# Altium schematic symbol library INDUCTORS.SchLib: 27 symbols
Pins are listed as number, name and electrical type; pins without a type are passive.

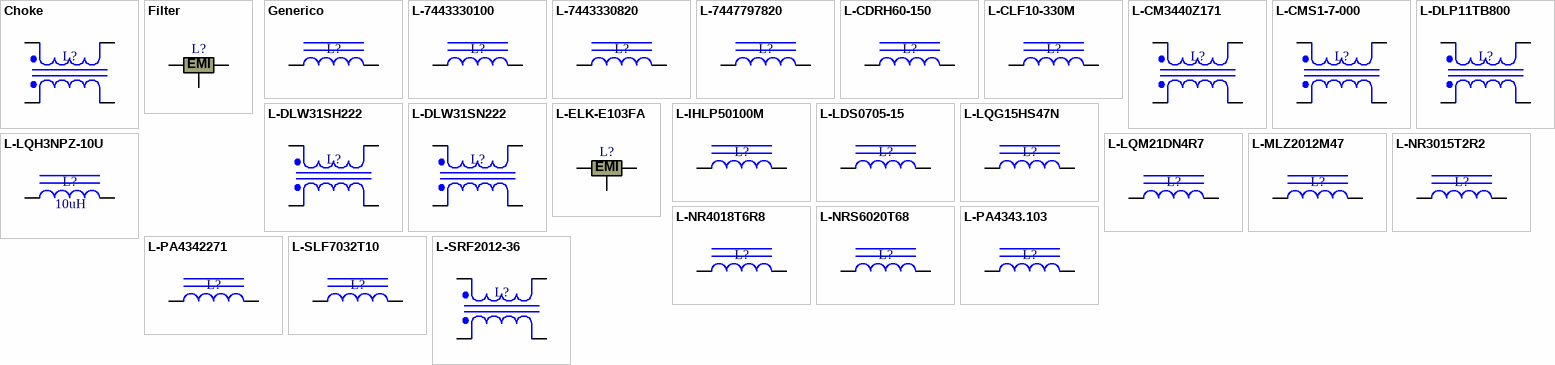
[diagram p0: symbols Choke to L-SRF2012-36]

## Choke
designator L?
Manufacturer Part Number: *; Working Temperature: *; Temperature Coefficient: *; Mounting: *; Short Description: *; Power: *; Ratings: *; Type: *; Frequency: *; Alternate Part Number 1: *; Alternate Part Number 2: *; Manufacturer: *; Tolerance: *; Current: *; Revision Date: *; Package Reference: *; Voltage: *; Value: *
pins: 1, 2, 3, 4

## Filter
designator L?
Manufacturer Part Number: *; Working Temperature: *; Temperature Coefficient: *; Mounting: *; Short Description: *; Power: *; Ratings: *; Type: *; Frequency: *; Alternate Part Number 1: *; Alternate Part Number 2: *; Manufacturer: *; Tolerance: *; Current: *; Revision Date: *; Package Reference: *; Voltage: *; Value: *
pins: 0, 1, 2
text: EMI

## Generico
designator L?
Manufacturer Part Number: *; Working Temperature: *; Temperature Coefficient: *; Mounting: *; Short Description: *; Power: *; Ratings: *; Type: *; Frequency: *; Alternate Part Number 1: *; Alternate Part Number 2: *; Manufacturer: *; Tolerance: *; Current: *; Revision Date: *; Package Reference: *; Voltage: *; Value: *
pins: 1, 2

## L-7443330100
designator L?
1 µH Shielded Wirewound Inductor 20 A 2.65mOhm Max Nonstandard; Manufacturer Part Number: 7443330100; Manufacturer: Würth Elektronik; Working Temperature: -40°C ~ 125°C; Temperature Coefficient: NC; Short Description: FIXED IND 1UH 20A 2.65 MOHM SMD; Ratings: REACH, ROHS3; Type: Fixed; Frequency: 100MHz; Tolerance: ±20%; Current: 20A; Value: 1u; Mounting: SMT; Power: NC; Alternate Part Number 2: *; Revision Date: 03/08/21; Package Reference: *; Voltage: NC
footprint 7443330100 (INDUCTOR POWER (10.90mm x 10.00mm x 9.30mm))
pins: 1, 2

## L-7443330820
designator L?
8.2 µH Shielded Wirewound Inductor 11.5 A 15mOhm Max Nonstandard; Manufacturer Part Number: 7443330820; Manufacturer: Würth Elektronik; Working Temperature: -40°C ~ 125°C; Temperature Coefficient: NC; Short Description: FIXED IND 8.2UH 11.5A 15MOHM SMD; Ratings: REACH, ROHS3; Type: Fixed; Frequency: 36MHz; Tolerance: ±20%; Current: 11.5A; Value: 8.2u; Mounting: SMT; Power: NC; Alternate Part Number 2: *; Revision Date: 03/08/21; Package Reference: *; Voltage: NC
footprint 7443330820
pins: 1, 2

## L-7447797820
designator L?
8.2 µH Shielded Wirewound Inductor 5.05 A 28.6mOhm Max Nonstandard; Manufacturer Part Number: 7447797820; Manufacturer: Würth Elektronik; Working Temperature: -40°C ~ 150°C; Temperature Coefficient: NC; Short Description: FIXED IND 8.2UH 5.05A 28.6 MOHM; Ratings: REACH, ROHS3; Type: Fixed; Frequency: 28MHz; Tolerance: ±20%; Current: 5.05A; Value: 8.2u; Mounting: SMT; Power: NC; Alternate Part Number 2: *; Revision Date: 03/08/21; Package Reference: *; Voltage: NC
footprint 7443330820
pins: 1, 2

## L-CDRH60-150
designator L?
15 µH Shielded - Inductor 2 A 76.8mOhm Nonstandard; Manufacturer Part Number: CDRH60D45BT150NP-150MC; Manufacturer: Sumida America Components Inc.; Working Temperature: -55°C ~ 150°C; Temperature Coefficient: NC; Short Description: FIXED IND 15UH 2A 76.8 MOHM SMD; Type: Fixed; Frequency: ND; Tolerance: ±20%; Current: 2A; Value: 15u; Mounting: SMT; Power: NC; Alternate Part Number 2: *; Revision Date: 25/10/21; Package Reference: *; Voltage: NC
footprint CDRH60D45BT150NP-150MC (Footprint not found)
pins: 1, 2

## L-CLF10-330M
designator L?  (value not drawn)
33 µH Shielded Drum Core, Wirewound Inductor 2.15 A 73.2mOhm Max Nonstandard; Manufacturer Part Number: CLF10060NIT-330M-D; Manufacturer: TDK Corporation; Working Temperature: -55°C ~ 150°C; Temperature Coefficient: NC; Short Description: FIXED IND 33UH 2.9A 73.2 MOHM; Ratings: REACH, ROHS3; Type: Fixed; Frequency: 10MHz; Tolerance: ±20%; Current: 2.15A; Value: 33uH; Mounting: SMT; Power: NC; Alternate Part Number 2: *; Revision Date: 03/08/21; Package Reference: *; Voltage: NC
footprint 7443330100 (INDUCTOR POWER (10.90mm x 10.00mm x 9.30mm))
pins: 1, 2

## L-CM3440Z171
designator L?
2 Line Common Mode Choke Surface Mount 170 Ohms @ 100 MHz 20A DCR 1mOhm; Manufacturer Part Number: CM3440Z171R-10; Manufacturer: Laird-Signal Integrity Products; Working Temperature: -40°C ~ 125°C; Temperature Coefficient: NC; Short Description: CMC 20A 2LN 170 OHM SMD; Ratings: REACH, ROHS3; Mounting: SMT; Power: NC; Type: Choke; Frequency: NC; Alternate Part Number 2: *; Tolerance: NC; Current: 20A; Revision Date: 03/08/21; Package Reference: *; Voltage: NC; Value: 170 Ohms @ 100 MHz
footprint CM3440Z171R-10 ((11.05mm x 8.51mm))
pins: 1, 2, 3, 4

## L-CMS1-7-000
designator L?
41.5 µH @ 100 kHz 2 Line Common Mode Choke Surface Mount 2.6A DCR 19mOhm (Typ); Manufacturer Part Number: CMS1-7-R; Working Temperature: -40°C ~ 160°C; Temperature Coefficient: NC; Short Description: CMC 41.5UH 2.6A 2LN SMD; Ratings: ROHS3; Mounting: SMT; Power: NC; Type: Choke; Frequency: NC; Alternate Part Number 2: *; Manufacturer: CMS1-7-R; Tolerance: NC; Current: 2.6A; Revision Date: 03/08/21; Package Reference: *; Voltage: NC; Value: 41.5 µH @ 100 kHz
footprint CMS1-7
pins: 1, 2, 3, 4

## L-DLP11TB800
designator L?
2 Line Common Mode Choke Surface Mount 80 Ohms @ 100 MHz 100mA DCR 1.88Ohm; Manufacturer Part Number: DLP11TB800UL2L; Manufacturer: Murata Electronics; Working Temperature: -40°C ~ 85°C; Temperature Coefficient: NC; Short Description: CMC 100MA 2LN 80 OHM SMD; Ratings: ROHS3; Mounting: SMT; Power: NC; Type: Choke; Frequency: NC; Alternate Part Number 2: *; Tolerance: NC; Current: 100mA; Revision Date: 03/08/21; Package Reference: 0504; Voltage: NC; Value: 80 Ohms @ 100 MHz
footprint DLP11TB800UL2
pins: 1, 2, 3, 4

## L-DLW31SH222
designator L?
2 Line Common Mode Choke Surface Mount 2.2 kOhms @ 100 MHz 80mA DCR 1.92Ohm; Manufacturer Part Number: DLW31SH222SQ2L; Manufacturer: Murata Electronics; Working Temperature: -40°C ~ 125°C; Temperature Coefficient: NC; Short Description: CMC 80MA 2LN 2.2KOHM SMD AECQ200; Ratings: ROHS3, AEC-Q200; Mounting: SMT; Power: NC; Type: Choke; Frequency: NC; Alternate Part Number 2: *; Tolerance: NC; Current: 80mA; Revision Date: 03/08/21; Package Reference: 1206; Voltage: NC; Value: 2.2 kOhms @ 100 MHz
footprint DLW31SH222SQ2L (Chip Common Mode Choke Coil)
pins: 1, 2, 3, 4

## L-DLW31SN222
designator L?
2 Line Common Mode Choke Surface Mount 2.2 kOhms @ 100 MHz 200mA DCR 1.2Ohm; Manufacturer Part Number: DLW31SN222SQ2L; Manufacturer: Murata Electronics; Working Temperature: -40°C ~ 85°C; Temperature Coefficient: NC; Short Description: CMC 200MA 2LN 2.2KOHM SMD; Ratings: ROHS3; Mounting: SMT; Power: NC; Type: Choke; Frequency: NC; Alternate Part Number 2: *; Tolerance: NC; Current: 200mA; Revision Date: 03/08/21; Package Reference: 1206; Voltage: NC; Value: 2.2 kOhms @ 100 MHz
footprint DLW31SH222SQ2L (Chip Common Mode Choke Coil)
pins: 1, 2, 3, 4

## L-ELK-E103FA
designator L?
LC (T-Type) EMI Filter 3rd Order Low Pass 1 Channel C = 10000pF 2 A 1207 (3218 Metric), 3 PC Pad; Manufacturer Part Number: ELK-E103FA; Manufacturer: Panasonic Electronic Components; Working Temperature: -40°C ~ 85°C; Temperature Coefficient: NC; Short Description: FILTER LC(T) 0.01UF 500KHZ SMD; Ratings: ROHS3; Current: 2A; Value: 500kHz; Mounting: SMT; Power: NC; Type: Filter; Frequency: NC; Alternate Part Number 2: *; Tolerance: NC; Revision Date: 03/08/21; Package Reference: *; Voltage: NC
footprint ELK-E103FA (DIGITAL NOISE FILTER 500KHZ SMD)
pins: 0, 1, 2
text: EMI

## L-IHLP50100M
designator L?  (value not drawn)
10 µH Shielded Molded Inductor 10 A 17.2mOhm Max Nonstandard; Manufacturer Part Number: IHLP50FDER100M01; Manufacturer: Vishay Dale; Working Temperature: -55°C ~ 125°C; Temperature Coefficient: NC; Short Description: FIXED IND 10uH 10A 17.2 MOHM SMD; Ratings: REACH, ROHS3; Type: Fixed; Frequency: 5MHz; Tolerance: ±20%; Current: 10A; Value: 10uH; Mounting: SMT; Power: NC; Alternate Part Number 2: *; Revision Date: 03/08/21; Package Reference: *; Voltage: NC
footprint IHLP5050FDER100M01 (0.520" L x 0.508" W (13.20mm x 12.90mm))
pins: 1, 2

## L-LDS0705-15
designator L?
15 µH Shielded Wirewound Inductor 2.04 A 56mOhm Nonstandard; Manufacturer Part Number: LDS0705-150M-R; Manufacturer: Eaton - Electronics Division; Working Temperature: -40°C ~ 125°C; Temperature Coefficient: NC; Short Description: FIXED IND 15UH 2.04A 56 MOHM SMD; Type: Fixed; Frequency: ND; Tolerance: ±20%; Current: 2.04A; Value: 15u; Mounting: SMT; Power: NC; Alternate Part Number 2: *; Revision Date: 03/08/21; Package Reference: *; Voltage: NC
footprint LDS0705-150M-R
pins: 1, 2

## L-LQG15HS47N
designator L?
47 nH Unshielded Multilayer Inductor 300 mA 720mOhm Max 0402 (1005 Metric); Manufacturer Part Number: LQG15HS47NJ02D; Manufacturer: Murata Electronics; Working Temperature: -55°C ~ 125°C; Temperature Coefficient: NC; Short Description: FIXED IND 47NH 300MA 720MOHM SMD; Ratings: ROHS3; Type: Fixed; Frequency: 1GHz; Tolerance: ±5%; Current: 300mA; Value: 47n; Mounting: SMT; Power: NC; Alternate Part Number 2: *; Revision Date: 03/08/21; Package Reference: 0402; Voltage: NC
footprint L0402
pins: 1, 2

## L-LQH3NPZ-10U
designator L?  value 10uH
10 µH Shielded Drum Core, Wirewound Inductor 1.2 A 288mOhm Max 1212 (3030 Metric); Manufacturer Part Number: LQH3NPZ100MJRL; Manufacturer: Murata Electronics; Working Temperature: -40°C ~ 105°C; Temperature Coefficient: NC; Short Description: FIXED IND 10UH 1.2A 288 MOHM SMD; Ratings: AEC-Q200, ROHS3; Type: Fixed; Frequency: 30MHz; Tolerance: ±20%; Current: 1.2A; Mounting: SMT; Power: NC; Alternate Part Number 2: *; Revision Date: 18/04/23; Package Reference: *; Voltage: NC
footprint NR3015T2R2M
pins: 1, 2

## L-LQM21DN4R7
designator L?
4.7 µH Shielded Multilayer Inductor 30 mA 300mOhm Max 0805 (2012 Metric); Manufacturer Part Number: LQM21DN4R7N00D; Manufacturer: Murata Electronics; Working Temperature: -40°C ~ 85°C; Temperature Coefficient: NC; Short Description: FIXED IND 4.7UH 30MA 300MOHM SMD; Ratings: ROHS3; Type: Fixed; Frequency: 35MHz; Tolerance: ±30%; Current: 30mA; Value: 4.7u; Mounting: SMT; Power: NC; Alternate Part Number 2: *; Revision Date: 03/08/21; Package Reference: 0805; Voltage: NC
footprint LQM21DN4R7N00D
pins: 1, 2

## L-MLZ2012M47
designator L?
47 µH Shielded Multilayer Inductor 170 mA 3.7Ohm 0805 (2012 Metric); Manufacturer Part Number: MLZ2012M470WT000; Manufacturer: TDK Corporation; Working Temperature: -55°C ~ 125°C; Temperature Coefficient: NC; Short Description: FIXED IND 47UH 170MA 3.7 OHM SMD; Ratings: REACH, ROHS3; Type: Fixed; Frequency: 20MHz; Tolerance: ±20%; Current: 170mA; Value: 47u; Mounting: SMT; Power: NC; Alternate Part Number 2: *; Revision Date: 03/08/21; Package Reference: 0805; Voltage: NC
footprint L0805
pins: 1, 2

## L-NR3015T2R2
designator L?
2.2 µH Shielded Wirewound Inductor 1.5 A 72mOhm Max Nonstandard; Manufacturer Part Number: NR3015T2R2M; Manufacturer: Taiyo Yuden; Working Temperature: -25°C ~ 120°C; Temperature Coefficient: NC; Short Description: FIXED IND 2.2UH 1.5A 72 MOHM SMD; Ratings: ROHS3; Type: Fixed; Frequency: 64MHz; Tolerance: ±20%; Current: 1.5A; Value: 2.2u; Mounting: SMT; Power: NC; Alternate Part Number 2: *; Revision Date: 03/08/21; Package Reference: *; Voltage: NC
footprint NR3015T2R2M
pins: 1, 2

## L-NR4018T6R8
designator L?
6.8 µH Shielded Wirewound Inductor 1.06 A 132mOhm Max Nonstandard; Manufacturer Part Number: NR4018T6R8M; Manufacturer: Taiyo Yuden; Working Temperature: -25°C ~ 120°C; Temperature Coefficient: NC; Short Description: FIXED IND 6.8UH 1.06A 132MOHM SM; Ratings: ROHS3; Type: Fixed; Frequency: 29MHz; Tolerance: ±20%; Current: 1.06A; Value: 6.8u; Mounting: SMT; Power: NC; Alternate Part Number 2: *; Revision Date: 03/08/21; Package Reference: *; Voltage: NC
footprint NR4018T6R8M (FIXED IND 6.8UH 1(4.00mm x 4.00mm x 2.00mm))
pins: 1, 2

## L-NRS6020T68
designator L?
6.8 µH Shielded Wirewound Inductor 1.8 A 102mOhm Max Nonstandard; Manufacturer Part Number: NRS6020T6R8NMGJ; Manufacturer: Taiyo Yuden; Working Temperature: -25°C ~ 125°C; Temperature Coefficient: NC; Short Description: FIXED IND 6.8UH 1.8A 102MOHM SMD; Ratings: ROHS3; Type: Fixed; Frequency: 30MHz; Tolerance: ±30%; Current: 1.8A; Value: 6.8u; Mounting: SMT; Power: NC; Alternate Part Number 2: *; Revision Date: 03/08/21; Package Reference: *; Voltage: NC
footprint NRS6020T6R8NMGJ (INDUCTOR 10UH 1.3A 20% SMD)
pins: 1, 2

## L-PA4343.103
designator L?
10 µH Shielded Molded Inductor 11 A 15.8mOhm Max Nonstandard -; Manufacturer Part Number: PA4343.103ANLT; Manufacturer: Pulse Electronics Power; Working Temperature: -55°C ~ 155°C; Temperature Coefficient: NC; Short Description: FIXED IND 10UH 11A 15.8 MOHM SMD; Ratings: REACH, ROHS3, AEC-Q200; Type: Fixed; Frequency: ND; Tolerance: ±20%; Current: 11A; Value: 10u; Mounting: SMT; Power: NC; Alternate Part Number 2: *; Revision Date: 20/09/21; Package Reference: *; Voltage: NC
footprint PA4343.103ANLT (Footprint not found)
pins: 1, 2

## L-PA4342271
designator L?
270nH Shielded Molded Inductor 1mOhm; Manufacturer Part Number: PA4342.271NLT; Manufacturer: Pulse Electronics Power; Working Temperature: -40°C ~ 125°C; Temperature Coefficient: NC; Short Description: FIXED IND 270NH 33A 1 MOHM SMD; Ratings: REACH, ROHS; Type: Fixed; Frequency: 100 kHz; Tolerance: ±20%; Current: 33A; Value: 270n; Mounting: SMT; Power: NC; Alternate Part Number 1: *; Alternate Part Number 2: *; Revision Date: 02/09/21; Package Reference: NC; Voltage: NC
footprint PA4342
pins: 1, 2

## L-SLF7032T10
designator L?
100 µH Shielded Wirewound Inductor 450 mA 540mOhm Max Nonstandard; Manufacturer Part Number: SLF7032T-101MR45-2PF; Manufacturer: TDK Corporation; Working Temperature: -40°C ~ 105°C; Temperature Coefficient: NC; Short Description: FIXED IND 100UH 450MA 540MOHM SM; Ratings: REACH, ROHS3; Type: Fixed; Frequency: ND; Tolerance: ±20%; Current: 450mA; Value: 100u; Mounting: SMT; Power: NC; Alternate Part Number 2: *; Revision Date: 03/08/21; Package Reference: *; Voltage: NC
footprint SLF7032T-101MR45-2-PF
pins: 1, 2

## L-SRF2012-36
designator L?
2 Line Common Mode Choke Surface Mount 360 Ohms @ 100 MHz 300mA DCR 450mOhm; Manufacturer Part Number: SRF2012-361YA; Manufacturer: Bourns Inc.; Working Temperature: -40°C ~ 125°C; Temperature Coefficient: NC; Short Description: CMC 300MA 2LN 360 OHM SMD; Ratings: REACH, ROHS3; Mounting: SMT; Power: NC; Type: Choke; Frequency: NC; Alternate Part Number 2: *; Tolerance: NC; Current: 300mA; Revision Date: 03/08/21; Package Reference: *; Voltage: NC; Value: 360 Ohms @ 100 MHz
footprint SRF2012-361 (CHOKE COMM MODE 90 OHM .4A SMD)
pins: 1, 2, 3, 4